# Altium schematic symbol library gsm.SchLib: 7 symbols
Pins are listed as number, name and electrical type; pins without a type are passive.

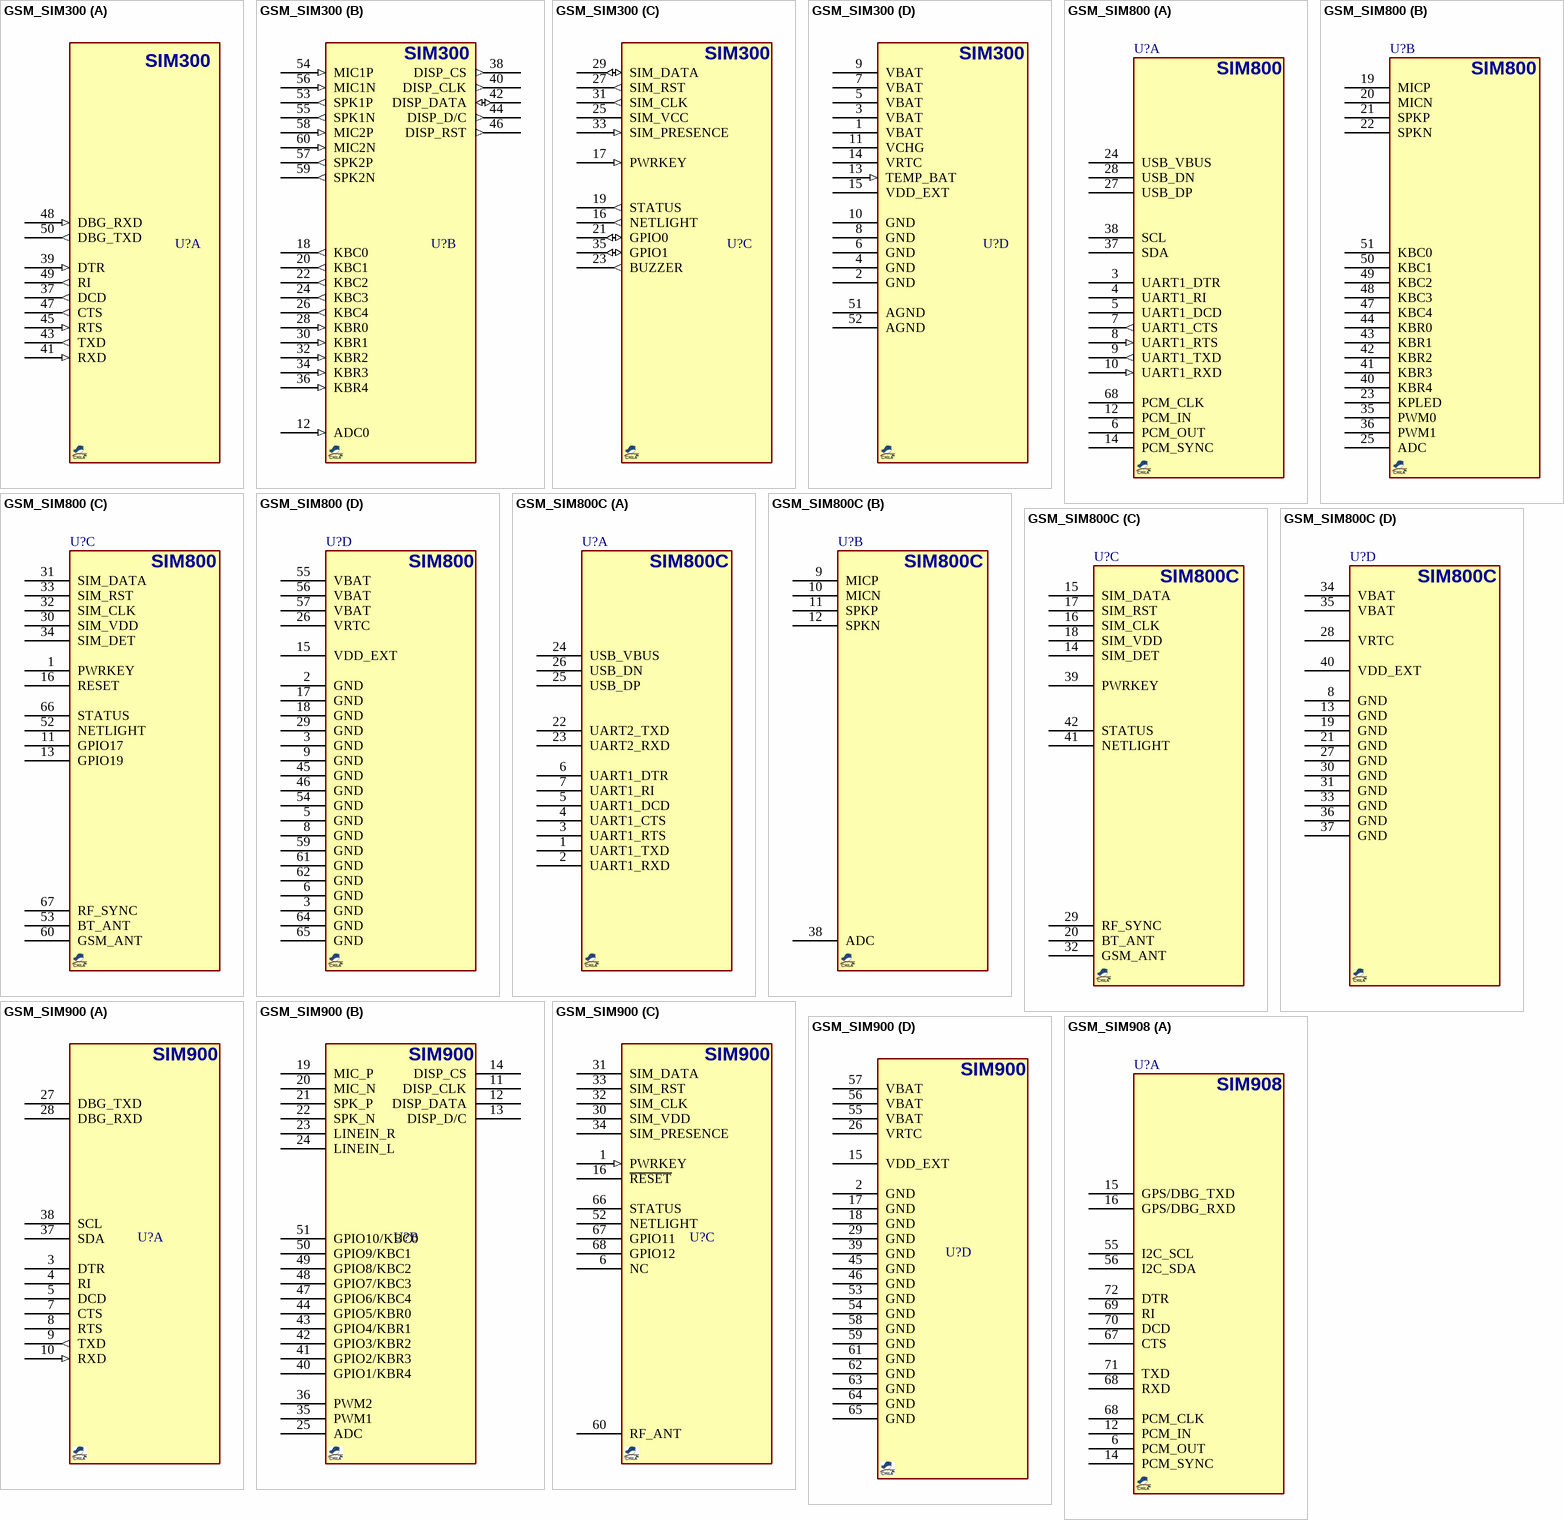
[diagram p0: symbols GSM_SIM300 to GSM_SIM908]

## GSM_SIM300
designator U?, comment SIM300  (value not drawn)
GSM, 900/1800/1900, GPRS, UART, 3.4~4.5V; MANF: SIMCom; PARAM2: 3.4~4.5VCC, 1.8/3VSIM; MANF_P#: SIM300; VALUE: SIM300
footprint GSM_SIM300
part A pins: 37 DCD (out), 39 DTR (in), 41 RXD (in), 43 TXD (out), 45 RTS (in), 47 CTS (out), 48 DBG_RXD (in), 49 RI (out), 50 DBG_TXD (out)
part B pins: 12 ADC0 (in), 18 KBC0 (out), 20 KBC1 (out), 22 KBC2 (out), 24 KBC3 (out), 26 KBC4 (out), 28 KBR0 (in), 30 KBR1 (in), 32 KBR2 (in), 34 KBR3 (in), 36 KBR4 (in), 38 DISP_CS (out), 40 DISP_CLK (out), 42 DISP_DATA (io), 44 DISP_D/C (out), 46 DISP_RST (out), 53 SPK1P (out), 54 MIC1P (in), 55 SPK1N (out), 56 MIC1N (in), 57 SPK2P (out), 58 MIC2P (in), 59 SPK2N (out), 60 MIC2N (in)
part C pins: 16 NETLIGHT (out), 17 PWRKEY (in), 19 STATUS (out), 21 GPIO0 (io), 23 BUZZER (out), 25 SIM_VCC (power), 27 SIM_RST (out), 29 SIM_DATA (io), 31 SIM_CLK (out), 33 SIM_PRESENCE (in), 35 GPIO1 (io)
part D pins: 1 VBAT (power), 2 GND (power), 3 VBAT (power), 4 GND (power), 5 VBAT (power), 6 GND (power), 7 VBAT (power), 8 GND (power), 9 VBAT (power), 10 GND (power), 11 VCHG (power), 13 TEMP_BAT (in), 14 VRTC, 15 VDD_EXT, 51 AGND (power), 52 AGND (power)

## GSM_SIM800
designator U?, comment SIM800  (value not drawn)
GSM, 850/900/1800/1900, GPRS, USSD, UART/USB, 3.4~4.4V; MANF: SIMCom; PARAM2: 3.4~4.4VCC, 1.8/3VSIM; MANF_P#: SIM800; PARAM: 850/900/1800/1900, GPRS, USSD, UART/USB; VALUE: SIM800
footprint GSM_SIM800
part A pins: 3 UART1_DTR, 4 UART1_RI, 5 UART1_DCD, 6 PCM_OUT, 7 UART1_CTS (out), 8 UART1_RTS (in), 9 UART1_TXD (out), 10 UART1_RXD (in), 12 PCM_IN, 14 PCM_SYNC, 24 USB_VBUS, 27 USB_DP, 28 USB_DN, 37 SDA, 38 SCL, 68 PCM_CLK
part B pins: 19 MICP, 20 MICN, 21 SPKP, 22 SPKN, 23 KPLED, 25 ADC, 35 PWM0, 36 PWM1, 40 KBR4, 41 KBR3, 42 KBR2, 43 KBR1, 44 KBR0, 47 KBC4, 48 KBC3, 49 KBC2, 50 KBC1, 51 KBC0
part C pins: 1 PWRKEY, 11 GPIO17, 13 GPIO19, 16 RESET, 30 SIM_VDD, 31 SIM_DATA, 32 SIM_CLK, 33 SIM_RST, 34 SIM_DET, 52 NETLIGHT, 53 BT_ANT, 60 GSM_ANT, 66 STATUS, 67 RF_SYNC
part D pins: 2 GND, 3 GND, 3 GND, 5 GND, 6 GND, 8 GND, 9 GND, 15 VDD_EXT, 17 GND, 18 GND, 26 VRTC, 29 GND, 45 GND, 46 GND, 54 GND, 55 VBAT, 56 VBAT, 57 VBAT, 59 GND, 61 GND, 62 GND, 64 GND, 65 GND

## GSM_SIM800C
designator U?, comment SIM800C  (value not drawn)
GSM, 850/900/1800/1900, GPRS, USSD, UART/USB, 3.4~4.4V; MANF: SIMCom; PARAM2: 3.4~4.4VCC, 1.8/3VSIM; MANF_P#: SIM800C; PARAM: 850/900/1800/1900, GPRS, USSD, UART/USB; VALUE: SIM800C
footprint GSM_SIM800C
part A pins: 1 UART1_TXD , 2 UART1_RXD , 3 UART1_RTS , 4 UART1_CTS , 5 UART1_DCD , 6 UART1_DTR , 7 UART1_RI , 22 UART2_TXD , 23 UART2_RXD , 24 USB_VBUS , 25 USB_DP , 26 USB_DN 
part B pins: 9 MICP , 10 MICN , 11 SPKP , 12 SPKN , 38 ADC 
part C pins: 14 SIM_DET , 15 SIM_DATA , 16 SIM_CLK , 17 SIM_RST , 18 SIM_VDD , 20 BT_ANT , 29 RF_SYNC , 32 GSM_ANT , 39 PWRKEY , 41 NETLIGHT , 42 STATUS 
part D pins: 8 GND, 13 GND, 19 GND, 21 GND, 27 GND, 28 VRTC, 30 GND, 31 GND, 33 GND, 34 VBAT , 35 VBAT , 36 GND, 37 GND, 40 VDD_EXT 

## GSM_SIM900
designator U?, comment SIM900  (value not drawn)
GSM, 850/900/1800/1900, GPRS, USSD, UART, 3.2~4.8V; MANF: SIMCom; PARAM2: 3.2~4.8VCC, 1.8/3VSIM; MANF_P#: SIM900; PARAM: 850/900/1800/1900, GPRS, USSD, UART; VALUE: SIM900
footprint GSM_SIM900 (SIM900_SIM900A)
part A pins: 3 DTR (power), 4 RI (power), 5 DCD (power), 7 CTS (power), 8 RTS (power), 9 TXD (out), 10 RXD (in), 27 DBG_TXD (power), 28 DBG_RXD (power), 37 SDA (power), 38 SCL (power)
part B pins: 11 DISP_CLK (power), 12 DISP_DATA (power), 13 DISP_D/C (power), 14 DISP_CS (power), 19 MIC_P (power), 20 MIC_N (power), 21 SPK_P (power), 22 SPK_N (power), 23 LINEIN_R (power), 24 LINEIN_L (power), 25 ADC (power), 35 PWM1 (power), 36 PWM2 (power), 40 GPIO1/KBR4 (power), 41 GPIO2/KBR3 (power), 42 GPIO3/KBR2 (power), 43 GPIO4/KBR1 (power), 44 GPIO5/KBR0 (power), 47 GPIO6/KBC4 (power), 48 GPIO7/KBC3 (power), 49 GPIO8/KBC2 (power), 50 GPIO9/KBC1 (power), 51 GPIO10/KBC0 (power)
part C pins: 1 PWRKEY (in), 6 NC, 16 ~{RESET} (power), 30 SIM_VDD (power), 31 SIM_DATA (power), 32 SIM_CLK (power), 33 SIM_RST (power), 34 SIM_PRESENCE (power), 52 NETLIGHT (power), 60 RF_ANT (power), 66 STATUS (power), 67 GPIO11 (power), 68 GPIO12 (power)
part D pins: 2 GND (power), 15 VDD_EXT (power), 17 GND (power), 18 GND (power), 26 VRTC (power), 29 GND (power), 39 GND (power), 45 GND (power), 46 GND (power), 53 GND (power), 54 GND (power), 55 VBAT (power), 56 VBAT (power), 57 VBAT (power), 58 GND (power), 59 GND (power), 61 GND (power), 62 GND (power), 63 GND (power), 64 GND (power), 65 GND (power)

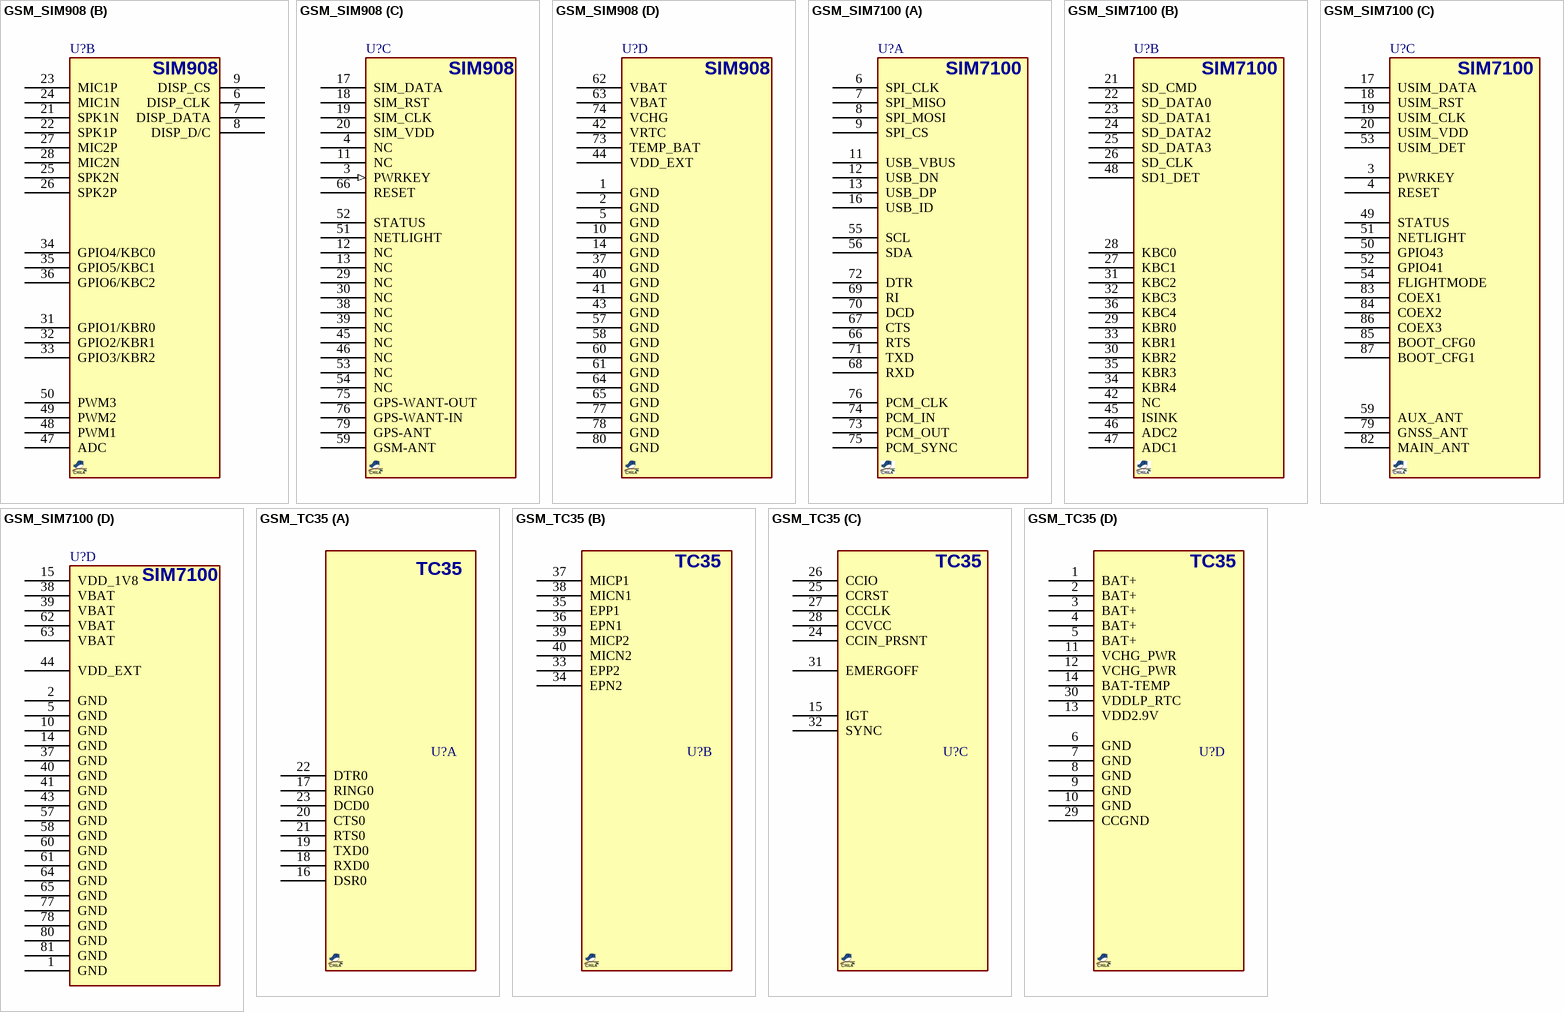
[diagram p1: symbols GSM_SIM908 to GSM_TC35]

## GSM_SIM908
designator U?, comment SIM908  (value not drawn)
GSM, 850/900/1800/1900, GPS, GPRS, USSD, UART, 3.2~4.8V; MANF: SIMCom; PARAM2: 3.2~4.8VCC; MANF_P#: SIM908; PARAM: 850/900/1800/1900, GPS, GPRS, USSD, UART; VALUE: SIM908
footprint GSM_SIM908 (SimCom Sim908 GPS/GSM)
part A pins: 6 PCM_OUT, 12 PCM_IN, 14 PCM_SYNC, 15 GPS/DBG_TXD, 16 GPS/DBG_RXD, 55 I2C_SCL, 56 I2C_SDA, 67 CTS, 68 PCM_CLK, 68 RXD, 69 RI, 70 DCD, 71 TXD, 72 DTR
part B pins: 6 DISP_CLK, 7 DISP_DATA, 8 DISP_D/C, 9 DISP_CS, 21 SPK1N, 22 SPK1P, 23 MIC1P, 24 MIC1N, 25 SPK2N, 26 SPK2P, 27 MIC2P, 28 MIC2N, 31 GPIO1/KBR0, 32 GPIO2/KBR1, 33 GPIO3/KBR2, 34 GPIO4/KBC0, 35 GPIO5/KBC1, 36 GPIO6/KBC2, 47 ADC, 48 PWM1, 49 PWM2, 50 PWM3
part C pins: 3 PWRKEY (in), 4 NC, 11 NC, 12 NC, 13 NC, 17 SIM_DATA, 18 SIM_RST, 19 SIM_CLK, 20 SIM_VDD, 29 NC, 30 NC, 38 NC, 39 NC, 45 NC, 46 NC, 51 NETLIGHT, 52 STATUS, 53 NC, 54 NC, 59 GSM-ANT, 66 RESET, 75 GPS-WANT-OUT, 76 GPS-WANT-IN, 79 GPS-ANT
part D pins: 1 GND (power), 2 GND (power), 5 GND (power), 10 GND (power), 14 GND (power), 37 GND (power), 40 GND (power), 41 GND (power), 42 VRTC, 43 GND (power), 44 VDD_EXT (power), 57 GND (power), 58 GND (power), 60 GND (power), 61 GND (power), 62 VBAT (power), 63 VBAT (power), 64 GND (power), 65 GND (power), 73 TEMP_BAT, 74 VCHG, 77 GND (power), 78 GND, 80 GND (power)

## GSM_SIM7100
designator U?, comment SIM7100  (value not drawn)
GSM, 850/900/1800/1900, 4G, GPS, UART/USB2.0/SPI, 3.4~4.2V; MANF: SIMCom; MANF_P#: SIM7100C; PARAM2: 3.4~4.2VCC; PARAM: 850/900/1800/1900, 4G, GPS, UART/USB2.0/SPI; VALUE: SIM7100
footprint SIM7100_87 (SIM7100 SIM5360 87-lead pitch:1mm 30x30mm)
part A pins: 6 SPI_CLK, 7 SPI_MISO, 8 SPI_MOSI, 9 SPI_CS, 11 USB_VBUS, 12 USB_DN, 13 USB_DP, 16 USB_ID, 55 SCL, 56 SDA, 66 RTS, 67 CTS, 68 RXD, 69 RI, 70 DCD, 71 TXD, 72 DTR, 73 PCM_OUT, 74 PCM_IN, 75 PCM_SYNC, 76 PCM_CLK
part B pins: 21 SD_CMD, 22 SD_DATA0, 23 SD_DATA1, 24 SD_DATA2, 25 SD_DATA3, 26 SD_CLK, 27 KBC1, 28 KBC0, 29 KBR0, 30 KBR2, 31 KBC2, 32 KBC3, 33 KBR1, 34 KBR4, 35 KBR3, 36 KBC4, 42 NC, 45 ISINK, 46 ADC2, 47 ADC1, 48 SD1_DET
part C pins: 3 PWRKEY, 4 RESET, 17 USIM_DATA, 18 USIM_RST, 19 USIM_CLK, 20 USIM_VDD, 49 STATUS, 50 GPIO43, 51 NETLIGHT, 52 GPIO41, 53 USIM_DET, 54 FLIGHTMODE, 59 AUX_ANT, 79 GNSS_ANT, 82 MAIN_ANT, 83 COEX1, 84 COEX2, 85 BOOT_CFG0, 86 COEX3, 87 BOOT_CFG1
part D pins: 1 GND, 2 GND, 5 GND, 10 GND, 14 GND, 15 VDD_1V8, 37 GND, 38 VBAT, 39 VBAT, 40 GND, 41 GND, 43 GND, 44 VDD_EXT, 57 GND, 58 GND, 60 GND, 61 GND, 62 VBAT, 63 VBAT, 64 GND, 65 GND, 77 GND, 78 GND, 80 GND, 81 GND

## GSM_TC35
designator U?, comment TC35  (value not drawn)
GSM, 900/1800 UART; MANF: SIEMENS; MANF_P#: TC35i; PARAM2: VBAT3.3~5.5V, PWR5.5~8V; VALUE: TC35
footprint GSM_TC35
part A pins: 16 DSR0, 17 RING0, 18 RXD0, 19 TXD0, 20 CTS0, 21 RTS0, 22 DTR0, 23 DCD0
part B pins: 33 EPP2, 34 EPN2, 35 EPP1, 36 EPN1, 37 MICP1, 38 MICN1, 39 MICP2, 40 MICN2
part C pins: 15 IGT, 24 CCIN_PRSNT, 25 CCRST, 26 CCIO, 27 CCCLK, 28 CCVCC, 31 EMERGOFF, 32 SYNC
part D pins: 1 BAT+, 2 BAT+, 3 BAT+, 4 BAT+, 5 BAT+, 6 GND, 7 GND, 8 GND, 9 GND, 10 GND, 11 VCHG_PWR, 12 VCHG_PWR, 13 VDD2.9V, 14 BAT-TEMP, 29 CCGND, 30 VDDLP_RTC